# EAGLE library part 7508110127 (library WE-OLTI)
WE-OLTI Offline Flyback Transformers Characteristics Nominal input voltage: 85–265 VAC (120–375 VDC) Small size Low leakage inductance Multiple-output options Operating temperature: −40 °C to +125 °C Isolation Voltage: 2 kVAC to 5 kVAC Options for fixed frequency or quasi-resonant mode operation Most products meet reinforced insulation Applications Industrial controls USB chargers Utility metering devices Process controls Factory automation Security systems Garage door opener auxiliary supplies Home appliances Especially designed for several ICs from Texas Instruments Details see: www.we-online.com/en/components/products/WE-OLTI Created by Ella 2025-02-06 2025 (C) Würth Elektronik
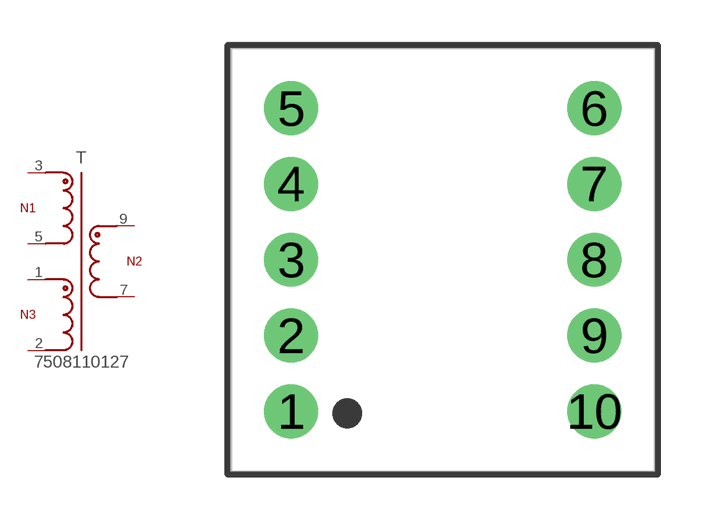
[diagram p3: symbol with the pads of WE-OLTI_EP13_L14.22W14.22H12.7; footprint WE-OLTI_EP13_L14.22W14.22H12.7]

Designator prefix T

## 7508110127 (AUXILIARY_VOLTAGE_1: 15 V; CATEGORY: Transformers; DATASHEET: https://www.we-online.com/redexpert/spec/7508110127?ae; HEIGHT: 12.7 mm; INDUCTANCE: 1050 uH; INPUT_VOLTAGE: 85 - 265 V (AC); INSULATION_TEST_VOLTAGE: 4000 V (AC); LENGTH: 14.22 mm; MANUFACTURER: Würth Elektronik; MOUNT: THT; MPN: 7508110127; OUTPUT_CURRENT_1: 1000 mA; OUTPUT_VOLTAGE_1: 5 V; SATURATION_CURRENT: 0.5 A; SIZE: EP13; SWITCHING-FREQUENCY: 120kHz; TURNS_RATIO: 14.16:1:3.17; VALUE: 1050 uH; WIDTH: 14.22 mm)  [WE-OLTI_EP13_L14.22W14.22H12.7]
1  A1  pas
2  A2  pas
3  P1  pas
5  P2  pas
7  S2  pas
9  S1  pas

## Footprint WE-OLTI_EP13_L14.22W14.22H12.7 (pad centres in mm)
WE-OLTI Offline Flyback Transformers Size: EP13,THT,10pins LXWXH=14.22X14.22X12.7mm Bobbin: 070-4821
drill 1.2: 1 -5.08,-5.08; 2 -5.08,-2.54; 3 -5.08,0; 4 -5.08,2.54; 5 -5.08,5.08; 6 5.08,5.08; 7 5.08,2.54; 8 5.08,0; 9 5.08,-2.54; 10 5.08,-5.08